# Altium schematic symbol library PMIC.SchLib: 7 symbols
Pins are listed as number, name and electrical type; pins without a type are passive.

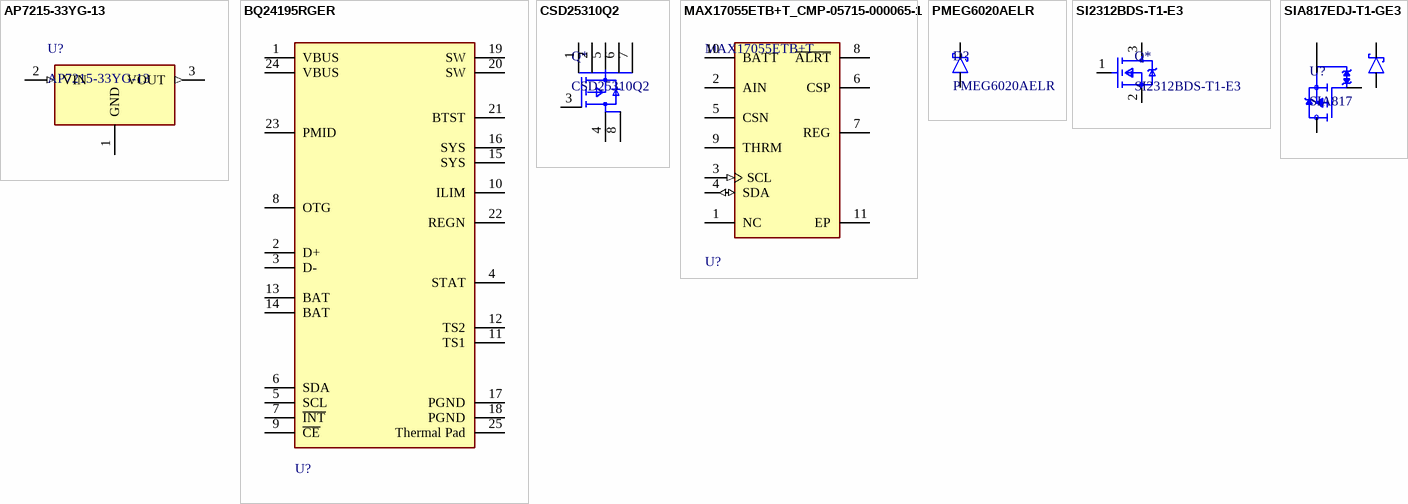
[diagram p0: symbols AP7215-33YG-13 to SIA817EDJ-T1-GE3]

## AP7215-33YG-13
designator U?
The AP7215 low-dropout linear regulator operates from a 3.3V to 5.5V supply and delivers a guaranteed 600mA continuous load current.
footprint Diodes_SOT89_0 (The AP7215 low-dropout linear regulator operates from a 3.3V to 5.5V supply and delivers a guaranteed 600mA continuous load current.)
pins: 1 GND (power), 2 VIN (in), 3 VOUT (out)

## BQ24195RGER
designator U?  (value not drawn)
bq24195 I2C Controlled 2.5-A /4.5-A Single Cell USB/Adapter Charger with 5.1 V at 1 A /5.1 V at 2.1 A Synchronous Boost Operation
footprint BQ24195_RGE0024H_0 (VQFN-24)
pins: 1 VBUS, 2 D+, 3 D-, 4 STAT, 5 SCL, 6 SDA, 7 ~{INT}, 8 OTG, 9 ~{CE}, 10 ILIM, 11 TS1, 12 TS2, 13 BAT, 14 BAT, 15 SYS, 16 SYS, 17 PGND, 18 PGND, 19 SW, 20 SW, 21 BTST, 22 REGN, 23 PMID, 24 VBUS, 25 Thermal Pad

## CSD25310Q2
designator Q*
CSD25310Q2 20 V P-Channel NexFET™ Power MOSFETs /
footprint CSD25310Q2_DQK_0 (CSD25310Q2 20 V P-Channel NexFET™ Power MOSFETs)
pins: 1 S, 2 S, 3 G, 4 D, 5 S, 6 S, 7 S PAD, 8 D PAD

## MAX17055ETB+T_CMP-05715-000065-1
designator U?, comment MAX17055ETB+T
IC FUEL GAUGE MODELGAUGE 10TDFN; Manufacturer: Maxim Integrated; Nominal Supply Current: 18uA; Standoff Height: 0mm; Max Supply Voltage: 4.9V; Min Supply Voltage: 2.3V; Number Of Cells: 1; Temperature: -40°C to +85°C; Octopart: https://octopart.com/max17055etb%2Bt-maxim+integrated-76519097; ComponentLink2URL: https://datasheets.maximintegrated.com/en/ds/MAX17055.pdf; Footprint Url: https://pdfserv.maximintegrated.com/land_patterns/90-100007.PDF; Digikey Description: IC FUEL GAUGE MODELGAUGE 10TDFN; RoHS: TRUE; Device Class L1: Integrated Circuits (ICs); Package: T102A2-1C; Ipc Land Pattern Name: DFN200X250X75-10; Temperature Range Low: -40°C; Height: 0.8mm; Manufacturer Part Number: MAX17055ETB+T; Automotive: No; Device Class L3: Battery Management; Device Class L2: Power Management ICs; ComponentLink2Description: Datasheet; Category: IC; Temperature Range High: +85°C; Lead Free: Yes
footprint FP-T102A2-1C-IPC_A
footprint FP-T102A2-1C-IPC_B
footprint FP-T102A2-1C-IPC_C
footprint FP-T102A2-1C-MFG
pins: 1 NC, 2 AIN, 3 SCL (in), 4 SDA (io), 5 CSN, 6 CSP (power), 7 REG (power), 8 ~{ALRT} (oc), 9 THRM, 10 BATT (power), 11 EP (power)

## PMEG6020AELR
designator D?
Diode, 60 V, 2 A low leakage current Schottky barrier rectifier
footprint CFP3-SOD123W-Nexperia (plastic, surface mounted package; 2 terminals; 2.6 mm x 1.7  mm x 1 mm body)
pins: A, K

## SI2312BDS-T1-E3
designator Q*
N-Channel 20 V (D-S) MOSFET
footprint SI2312BDS-T1-E3_0 (N-Channel 20 V (D-S) MOSFET)
pins: 1 G, 2 S, 3 D

## SIA817EDJ-T1-GE3
designator U?, comment SIA817
P-Channel 30V 4.5A (Tc) 1.9W (Ta), 6.5W (Tc) Surface Mount
footprint TRANS_SIA817EDJ-T1-GE3 (P-Channel 30V 4.5A (Tc) 1.9W (Ta), 6.5W (Tc) Surface Mount)
pins: 1 A, 3 D, 4 S, 5 G, 6 K, 7 K, 8 D